# Altium schematic symbol library SKYWORKS SKY13330-397LF.SchLib: 1 symbol
Pins are listed as number, name and electrical type; pins without a type are passive.

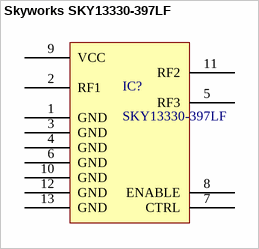
[diagram p0: symbol Skyworks SKY13330-397LF]

## Skyworks SKY13330-397LF
designator IC?, comment SKY13330-397LF
0.1-6.0GHz SPDT Switch
pins: 1 GND, 2 RF1, 3 GND, 4 GND, 5 RF3, 6 GND, 7 CTRL, 8 ENABLE, 9 VCC, 10 GND, 11 RF2, 12 GND, 13 GND